# Altium schematic symbol library 662004113322.SchLib: 1 symbol
Pins are listed as number, name and electrical type; pins without a type are passive.

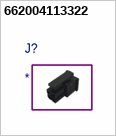
[diagram p0: symbol 662004113322]

## 662004113322
designator J?